# EAGLE library part L17HTHES4R1C (library ef9345)
Dsub, Stamped Signal 3A, Right Angle PCB Thru Hole, Hight Temp High Density, FP=8.89mm (0.350in), 15 Socket, Bright Tin Shell, Flash Gold, 4-40 Rear Insert, Ground Tab&Boardlock, Plastic Tray, Close Back Source: Datasheet <https://cdn.amphenol-cs.com/media/wysiwyg/files/drawing/l17hthxs4rxc.p>
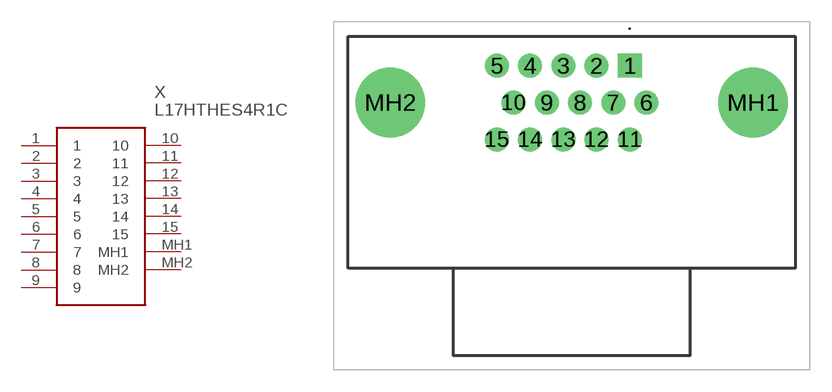
[diagram p4: symbol with the pads of L17HTHES4R1C; footprint L17HTHES4R1C]

Designator prefix X

## L17HTHES4R1C (DESCRIPTION: Dsub, Stamped Signal 3A, Right Angle PCB Thru Hole, Hight Temp High Density, FP=8.89mm (0.350in), 15 Socket, Bright Tin Shell, Flash Gold, 4-40 Rear Insert, Ground Tab&Boardlock, Plastic Tray, Close Back; HEIGHT: 12.93mm; MANUFACTURER_NAME: Amphenol Communication Solutions; MANUFACTURER_PART_NUMBER: L17HTHES4R1C; MOUSER_PART_NUMBER: 523-L17HTHES4R1C; MOUSER_PRICE-STOCK: https://www.mouser.co.uk/ProductDetail/Amphenol-Commercial-Products/L17HTHES4R1C?qs=WHK%2FphiOHJaD15gkdKzsig%3D%3D)  [L17HTHES4R1C]
1  1
2  2
3  3
4  4
5  5
6  6
7  7
8  8
9  9
10  10
11  11
12  12
13  13
14  14
15  15
MH1  MH1
MH2  MH2

## Footprint L17HTHES4R1C (pad centres in mm)
L17HTHES4R1C-1
drill 1.1 pad 1.65 square: 1 0,0
drill 1.1 pad 1.65: 2 -2.29,0; 3 -4.58,0; 4 -6.87,0; 5 -9.16,0; 6 1.145,-2.54; 7 -1.145,-2.54; 8 -3.435,-2.54; 9 -5.725,-2.54; 10 -8.015,-2.54; 11 0,-5.08; 12 -2.29,-5.08; 13 -4.58,-5.08; 14 -6.87,-5.08; 15 -9.16,-5.08
drill 3.2 pad 4.8: MH1 8.487,-2.54; MH2 -16.502,-2.54